# Altium footprint library PCB - POWER - R78C1510.PCBLIB: 1 footprints
Each footprint in its own frame and in the unit in brackets; x right, y up, seen from the top. Pads: shape width x height; smd on the part's side, far side on the other; paste and mask are expansions set on the pad; w line width, h text height; cw(c..) or ccw(c..) is an arc to the next point about the centre after c.
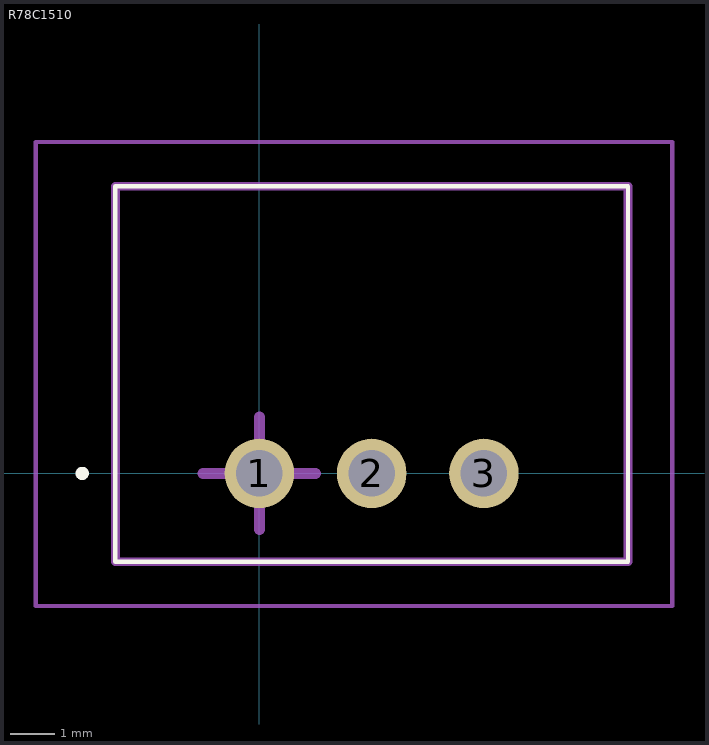
[diagram p0: the footprint, top view; thin cyan lines are the x and y axes]

## R78C1510 [mm]
pads (3):
  round 1.575 hole 1.05: 1(0,0) 2(2.54,0) 3(5.08,0)
Top Overlay:
  lines w0.1: -3.26,-2 -3.26,6.5 8.34,6.5 8.34,-2 -3.26,-2
  lines w0.2: -4.06,0 ccw(c-4.01,0) -3.96,0 ccw(c-4.01,0) -4.06,0
Top Assembly:
  lines w0.2: -3.26,-2 8.34,-2 8.34,6.5 -3.26,6.5 -3.26,-2
Top Courtyard:
  lines w0.1: -5.06,-3 -5.06,7.5 9.34,7.5 9.34,-3 -5.06,-3
Top Designator:
  text ".Designator" at 2.54,3.048 h3
Top Component Center:
  lines w0.254: -1.27,0 1.27,0 ; 0,-1.27 0,1.27
3D body "R-78C-1.0.STEP": height 10.54, standoff -3.97, extent -3.26,-2.005 8.34,6.505